# Altium schematic symbol library CommonElements.SchLib: 37 symbols
Pins are listed as number, name and electrical type; pins without a type are passive.

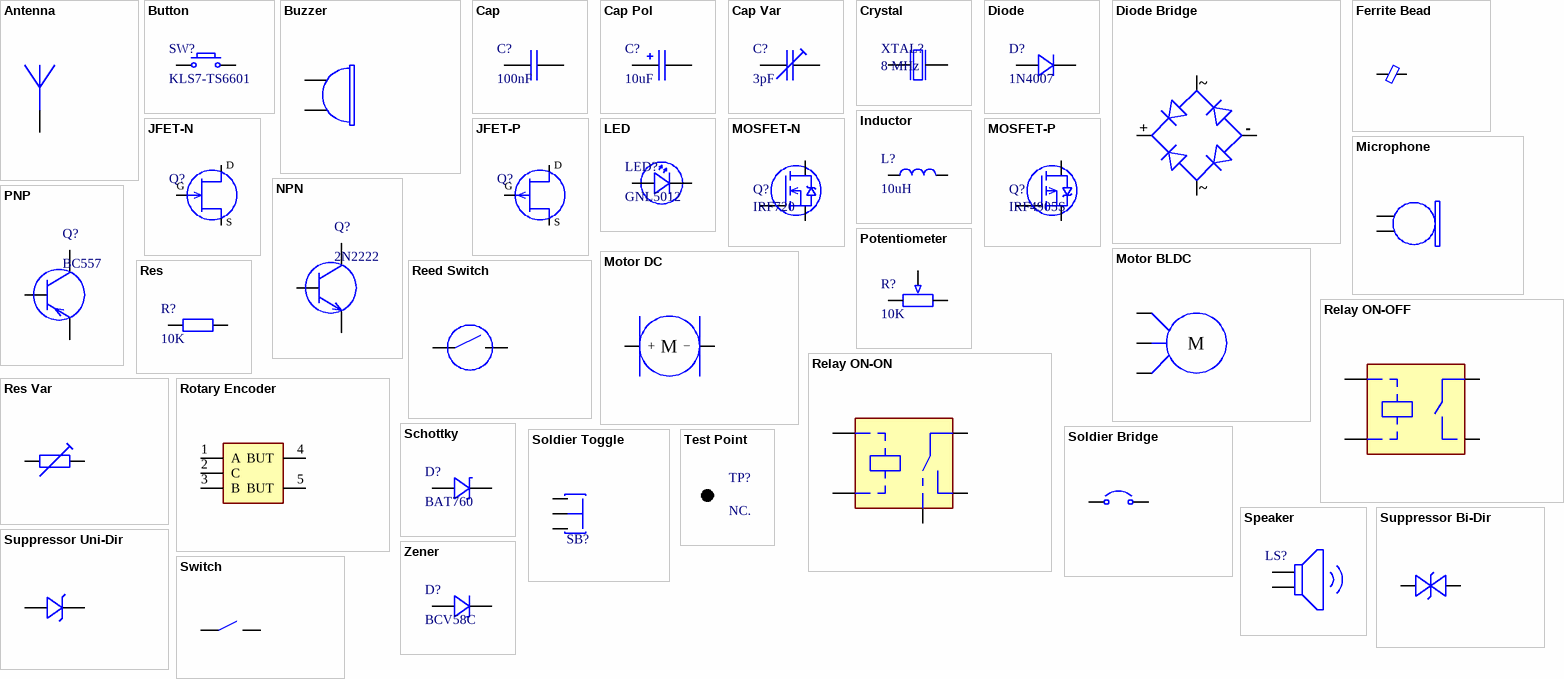
[diagram p0: symbols Antenna to Zener]

## Antenna
designator AE?, comment IPX1
Value: 2.4 GHz; Part Number: IPX1
footprint _1-PAD
pins: 1

## Button
designator SW?, comment KLS7-TS6601
Part Number: KLS7-TS6601
footprint _2-PAD
footprint _4-PAD; pin to pad 1>1+2 2>3+4
footprint BUT-PTH-6MM; pin to pad 1>1+2 2>3+4
footprint G71Y (SMT 3X6X3.5MM Tactile Button)
footprint BUT-SMD-6MM-H4.3MM; pin to pad 1>1+2 2>3+4
footprint BUT-SMD-6MM-H5MM; pin to pad 1>1+2 2>3+4
footprint BUT-SMD-6MM-H6MM; pin to pad 1>1+2 2>3+4
footprint BUT-SMD-6MM-H7MM; pin to pad 1>1+2 2>3+4
footprint BUT-SMD-6MM-H8MM; pin to pad 1>1+2 2>3+4
footprint BUT-SMD-8X6.2MM (FSM1LP); pin to pad 1>1+2 2>3+4
footprint KLS7-TS4407 (SMD 4.2mm x 4.5mm x 1.5mm Button); pin to pad 1>1+2 2>3+4
footprint KLS7-TS6335 (SMD Right Angle Button); pin to pad 1>1+2 2>3+4
footprint TL3301SPF260QG (SWITCH TACTILE SPST-NO 0.05A 12V); pin to pad 1>1+2 2>3+4
footprint BUT-PTH-12MM; pin to pad 1>1+2 2>3+4
footprint BUT-SMD-4X3.5X2MM
footprint 435171014816; pin to pad 1>1+2 2>3+4
pins: 1, 2

## Buzzer
designator LS?, comment KPI-G1410LP
Part Number: KPI-G1410LP
footprint BUZZER-S5.08MM-D10.5MM
footprint _2-PAD
footprint BUZZER-S7.62MM-D10.5MM
pins: 1, 2

## Cap
designator C?, comment 100nF
Voltage: 250V; Tolerance: 5%; Dielectric Type: X7R; Value: 100nF
footprint _2-PAD
footprint C0201
footprint C0402
footprint C0603
footprint C0805
footprint C1008
footprint C1206
footprint CAP_CER-5.08MM-CIR-V
footprint CAP_CER-5.08MM-CUBE-V
footprint CAP_FILM-P5MM-W5.5MM-L4MM
pins: 1, 2

## Cap Pol
designator C?, comment 10uF
Voltage: 25V; Tolerance: 5%; Dielectric Type: X7R; Value: 10uF
footprint _2-PAD
footprint CAP_ALSMD-9.4X8.3X10.7MM
footprint CAP_ALSMD-5X4.3X5.7MM
footprint CAP_ALSMD-5.9X5.4X5.7MM
footprint CAP_ALSMD-7.2X6.6X5.7MM
footprint CAP_POL-2.54MM-D5MM-H10MM-H-H
footprint CAP_POL-2.54MM-D5MM-H10MM-V
footprint CAP_POL-3.5MM-D8MM-H12.5MM-H-H
footprint CAP_POL-5.08MM-D10MM-H16MM-H-H
footprint CAP_POL-5.08MM-D10MM-H16MM-H-V
footprint CAP_POL-5.08MM-D8MM-H10MM-V
footprint CAP_POL-5.08MM-D8MM-H15MM-H-H
footprint CAP_POL-5MM-D12.5MM-H20MM-V
footprint CAP_TAN-A
footprint CAP_TAN-B
footprint CAP_TAN-C
footprint CAP_TAN-D
footprint CAP_ALSMD-11.2X10.3X10.7MM
pins: 1, 2

## Cap Var
designator С?, comment 3pF
Voltage: 250V; Tolerance: 5%; Dielectric Type: X7R; Value: 3pF
footprint _2-PAD
pins: 1, 2

## Crystal
designator XTAL?, comment 8 MHz
Part Number: HC49SM; Tolerance: 10ppm; Value: 8 MHz
footprint _2-PAD
footprint 7A (SMD Glass Sealing Crystals)
footprint HC-49
footprint HC-49SM
footprint NX3215SA
footprint NX5032GA (SMD Glass Sealing Crystals)
footprint SMD0503C2
footprint NX3225SA; pin to pad 2>3
footprint 7U (7U Series SMD Crystal Units)
footprint NX2520SA
pins: 1, 2

## Diode
designator D?, comment 1N4007
Part Number: 1N4007
footprint _2-PAD
footprint AXIAL10D-BL
footprint AXIAL10D-TR
footprint AXIAL12D-BL
footprint SMA (DO-214AC)
footprint SMB (DO-214AA)
footprint SMC (DO-214AB)
footprint SOD-123FL
footprint SOD-128
footprint SOD-323
footprint SOD-523 (SSMini2, SC-79)
footprint QFN1610
pins: 1 Anode, 2 Cathode

## Diode Bridge
designator BR?, comment DB107
Part Number: DB107
footprint _4-PAD
pins: 1, 2, 3, 4
text: ~; +; -

## Ferrite Bead
designator FB?, comment BLM18PG471SN1D
Value: 100uH; Part Number: BLM18PG471SN1D
footprint _2-PAD
footprint L0201
footprint L0402
footprint L0603
footprint L0805
footprint L1206
pins: 1, 2

## Inductor
designator L?, comment 10uH
Tolerance: 5%; Value: 10uH
footprint _2-PAD
footprint 0630 (06030 Power Inductor)
footprint 1040 (10040 Power Inductor)
footprint AXIAL10L
footprint CD105
footprint CD32
footprint CD43
footprint CD54
footprint CD75
footprint L0201
footprint L0402
footprint L0603
footprint L0805
footprint L1206
footprint THROTTLE-CT94-2
footprint VLS-CX-1
footprint IHLP1212
footprint IHLP2020
footprint VLS3012HBX
footprint 0420
footprint WE-HCI_5040_744316
footprint DO1608C
footprint SPM5020
footprint KSE-CD8D
pins: 1, 2

## JFET-N
designator Q?
footprint _3-PAD
footprint D2PAK-123
footprint D2PAK-132
footprint DPAK-123 (TO-252)
footprint DPAK-132 (TO-252)
footprint SOT-223
footprint SOT-23-3-123
footprint SOT-23-3-312
footprint SOT-323 (SC-70)
footprint SOT-416FL (SC-89 (EMT3))
footprint TO-220-H
footprint TO-220-V
footprint TO-92-123-L
footprint TO-92-123-T
footprint TO-92-132-L
footprint TO-92-132-T
footprint TO-92-321-L
footprint TO-92-321-T
pins: 1 G, 2 D, 3 S

## JFET-P
designator Q?
footprint _3-PAD
footprint D2PAK-123
footprint D2PAK-132
footprint DPAK-123 (TO-252)
footprint DPAK-132 (TO-252)
footprint SOT-223
footprint SOT-23-3-123
footprint SOT-23-3-312
footprint SOT-323 (SC-70)
footprint SOT-416FL (SC-89 (EMT3))
footprint TO-220-H
footprint TO-220-V
footprint TO-92-123-L
footprint TO-92-123-T
footprint TO-92-132-L
footprint TO-92-132-T
footprint TO-92-321-L
footprint TO-92-321-T
pins: 1 G, 2 D, 3 S

## LED
designator LED?, comment GNL5012
Part Number: GNL5012
footprint _2-PAD
footprint LED0603
footprint LED-BLUE-2.54MM-D3MM
footprint LED-BLUE-2.54MM-D3MM-H15MM
footprint LED-BLUE-2.54MM-D5MM
footprint LED-BLUE-2.54MM-D5MM-H17MM
footprint LED-GREEN-2.54MM-D3MM
footprint LED-GREEN-2.54MM-D3MM-H15MM
footprint LED-GREEN-2.54MM-D5MM
footprint LED-GREEN-2.54MM-D5MM-H17MM
footprint LED-PURPLE-2.54MM-D3MM
footprint LED-PURPLE-2.54MM-D3MM-H15MM
footprint LED-PURPLE-2.54MM-D5MM
footprint LED-PURPLE-2.54MM-D5MM-H17MM
footprint LED-RED-2.54MM-D3MM
footprint LED-RED-2.54MM-D3MM-H15MM
footprint LED-RED-2.54MM-D5MM
footprint LED-RED-2.54MM-D5MM-H17MM
footprint LED-WHITE-2.54MM-D3MM
footprint LED-WHITE-2.54MM-D3MM-H15MM
footprint LED-WHITE-2.54MM-D5MM
footprint LED-WHITE-2.54MM-D5MM-H17MM
footprint LED-YELLOW-2.54MM-D3MM
footprint LED-YELLOW-2.54MM-D3MM-H15MM
footprint LED-YELLOW-2.54MM-D5MM
footprint LED-YELLOW-2.54MM-D5MM-H17MM
footprint LED-2106-R/A
footprint 3528
footprint LED0402
pins: 1 Anode, 2 Cathode

## Microphone
designator MK?, comment HMO0603B
Part Number: HMO0603B
footprint _2-PAD
footprint MIC_ELECTRET-P2.54MM-D9.7MM-H6.5MM-V
footprint MIC_ELECTRET-S2.54MM-D9.7MM-H6.5MM-H
footprint MIC_ELECTRET-SMT-D9.7MM-H6.5MM
pins: 1 +, 2 −

## MOSFET-N
designator Q?, comment IRF720
Part Number: IRF720
footprint _3-PAD
footprint D2PAK-123
footprint D2PAK-132
footprint DPAK-123 (TO-252)
footprint DPAK-132 (TO-252)
footprint SOT-223
footprint SOT-23-3-123
footprint SOT-23-3-312
footprint SOT-323 (SC-70)
footprint SOT-416FL (SC-89 (EMT3))
footprint TO-220-H
footprint TO-220-V
footprint TO-92-123-L
footprint TO-92-123-T
footprint TO-92-132-L
footprint TO-92-132-T
footprint TO-92-321-L
footprint TO-92-321-T
footprint LFPAK33 (SOT1210)
footprint TPH1500CNH1
footprint POWERFLAT_3.3X3.3MM
pins: 1 G, 2 S, 3 D

## MOSFET-P
designator Q?, comment IRF4905S
Part Number: IRF4905S
footprint _3-PAD
footprint D2PAK-123
footprint D2PAK-132
footprint DPAK-123 (TO-252)
footprint DPAK-132 (TO-252)
footprint SOT-223
footprint SOT-23-3-123
footprint SOT-23-3-312
footprint SOT-323 (SC-70)
footprint SOT-416FL (SC-89 (EMT3))
footprint TO-220-H
footprint TO-220-V
footprint TO-92-123-L
footprint TO-92-123-T
footprint TO-92-132-L
footprint TO-92-132-T
footprint TO-92-321-L
footprint TO-92-321-T
footprint POWERFLAT_3.3X3.3MM
pins: 1 G, 2 S, 3 D

## Motor BLDC
designator M?, comment GM2804
Voltage: 12V; Part Number: GM2804
footprint _3-PAD
pins: 1, 2, 3
text: M

## Motor DC
designator M?
Voltage: 12V
footprint _2-PAD
pins: 1 +, 1 −
text: M

## NPN
designator Q?, comment 2N2222
Part Number: 2N2222
footprint _3-PAD
footprint D2PAK-123
footprint D2PAK-132
footprint DPAK-123 (TO-252)
footprint DPAK-132 (TO-252)
footprint SOT-223
footprint SOT-23-3-123
footprint SOT-23-3-312
footprint SOT-323 (SC-70)
footprint SOT-416FL (SC-89 (EMT3))
footprint TO-220-H
footprint TO-220-V
footprint TO-92-123-L
footprint TO-92-123-T
footprint TO-92-132-L
footprint TO-92-132-T
footprint TO-92-321-L
footprint TO-92-321-T
pins: 1 C, 2 B, 3 E

## PNP
designator Q?, comment BC557
Part Number: BC557
footprint _3-PAD
footprint D2PAK-123
footprint D2PAK-132
footprint DPAK-123 (TO-252)
footprint DPAK-132 (TO-252)
footprint SOT-223
footprint SOT-23-3-123
footprint SOT-23-3-312
footprint SOT-323 (SC-70)
footprint SOT-416FL (SC-89 (EMT3))
footprint TO-220-H
footprint TO-220-V
footprint TO-92-123-L
footprint TO-92-123-T
footprint TO-92-132-L
footprint TO-92-132-T
footprint TO-92-321-L
footprint TO-92-321-T
pins: 1 C, 2 B, 3 E

## Potentiometer
designator R?, comment 10K
Part Number: P0915N-FC15BR10K; Tolerance: 5%; Value: 10K
footprint _3-PAD
footprint 3006
footprint 3296W-H
footprint 3296W-V
footprint 3296X-H
footprint 3296X-V
footprint EVM3
footprint P0915N-FX15 (Model P09x Series Potentiometer)
footprint P0915N-FX20 (Model P09x Series Potentiometer)
footprint P0915N-FX25 (Model P09x Series Potentiometer)
footprint R0904N-X-L20KQ (R0904N Family Potentiometer)
footprint R1212N
footprint RS5-5-5
footprint SL-20V1-35MM
footprint SL-20V-30-35MM
footprint 3314
pins: 1, 2, 3

## Reed Switch
designator K?, comment MK16-B-2
Part Number: MK16-B-2
footprint _2-PAD
pins: 1, 2

## Relay ON-OFF
designator K?, comment SRD-12VDC-SLA
Part Number: SRD-12VDC-SLA
footprint SRD-XXVDC-SLA
footprint SRD-XXVDC-SLB
pins: 1, 2, 3, 4

## Relay ON-ON
designator K?, comment NRP05-A-12D
Part Number: NRP05-A-12D
footprint NRP05-C
footprint SRD-XXVDC-SLC
pins: 1, 2, 3, 4, 5

## Res
designator R?, comment 10K
Power: 0.125W; Tolerance: 5%; Value: 10K
footprint AXIAL10R
footprint AXIAL12R
footprint R0201
footprint R0402
footprint R0603
footprint R0805
footprint R1008
footprint R1206
footprint R2512
footprint _2-PAD
pins: 1, 2

## Res Var
designator R?, comment 10K
Tolerance: 5%; Value: 10K
footprint _2-PAD
pins: 1, 3

## Rotary Encoder
designator U?, comment EC-11
Part Number: EC-11
footprint EC11
footprint EC11S
footprint _5-PAD
pins: 1 A, 2 C, 3 B, 4 BUT, 5 BUT

## Schottky
designator D?, comment BAT760
Part Number: BAT760
footprint _2-PAD
footprint AXIAL10D-BL
footprint AXIAL10D-TR
footprint AXIAL12D-BL
footprint MELF-LL34
footprint SMA (DO-214AC)
footprint SMB (DO-214AA)
footprint SMC (DO-214AB)
footprint SOD-123FL
footprint SOD-128
footprint SOD-323
footprint SOD-523 (SSMini2, SC-79)
footprint QFN1610
pins: 1 Anode, 2 Cathode

## Soldier Bridge
designator SB?, comment Open
footprint 2X1F-H15MM (DS1021)
footprint 2X1F-H8.5MM (DS1021)
footprint 2X1FR-H6MM-L6MM (DS1022)
footprint 2X1FR-S2MM-H4.5MM-L6MM (DS1025-19)
footprint 2X1F-S2MM-H12.2MM (DS1025-01)
footprint 2X1F-S2MM-H8MM (DS1025-01)
footprint SOLDBR
footprint _2-PAD
pins: 1, 2

## Soldier Toggle
designator SB?, comment Open
footprint 3X1F-H15MM (DS1021)
footprint 3X1F-H8.5MM (DS1021)
footprint 3X1FR-H6MM-L6MM (DS1022)
footprint 3X1FR-S2MM-H4.5MM-L6MM (DS1025-19)
footprint 3X1F-S2MM-H12.2MM (DS1025-01)
footprint 3X1F-S2MM-H8MM (DS1025-01)
footprint SOLDBR-3
footprint _3-PAD
pins: 1, 2, 3

## Speaker
designator LS?, comment 40KS08P  (value not drawn)
Part Number: 40KS08P
footprint _2-PAD
footprint 1540
pins: 1 19, 2 20

## Suppressor Bi-Dir
designator D?, comment ESD5B5.0ST
Part Number: ESD5B5.0ST
footprint _2-PAD
footprint AXIAL10D-BL
footprint AXIAL10D-TR
footprint AXIAL12D-BL
footprint MELF-LL34
footprint SMA (DO-214AC)
footprint SMB (DO-214AA)
footprint SMC (DO-214AB)
footprint SOD-123FL
footprint SOD-128
footprint SOD-323
footprint SOD-523 (SSMini2, SC-79)
footprint QFN1610
pins: 1, 2

## Suppressor Uni-Dir
designator D?, comment ESD3V3D5
Part Number: ESD3V3D5
footprint _2-PAD
footprint AXIAL10D-BL
footprint AXIAL10D-TR
footprint AXIAL12D-BL
footprint MELF-LL34
footprint SMA (DO-214AC)
footprint SMB (DO-214AA)
footprint SMC (DO-214AB)
footprint SOD-123FL
footprint SOD-128
footprint SOD-323
footprint SOD-523 (SSMini2, SC-79)
footprint QFN1610
pins: 1, 2

## Switch
designator SW?, comment KN3(C)-101P
Part Number: KN3(C)-101P
footprint _2-PAD
footprint DIP_SW-1P-S
footprint DIP_SW-1P-T
footprint MHPS2273 (MHPS Series Key Switches)
footprint MTS-1XX-A2 (Miniature Toggle Switch)
pins: 1, 2

## Test Point
designator TP?, comment NC.
footprint _1-PAD
footprint 1X1F-H15MM (DS1021)
footprint 1X1F-H8.5MM (DS1021)
footprint 1X1FR-H6MM-L6MM (DS1022)
footprint 1X1FR-S2MM-H4.5MM-L6MM (DS1025-19)
footprint 1X1F-S2MM-H12.2MM (DS1025-01)
footprint 1X1F-S2MM-H8MM (DS1025-01)
footprint 1X1M-H5MM (DS1023)
footprint 1X1M-H8.5MM (DS1023)
footprint 1X1MR-H5.8MM-L10.2MM (DS1024)
footprint 1X1MR-S2MM-H2.8MM-L4.3MM (DS1026-02)
footprint 1X1M-S2MM-H4.3MM (DS1026-01)
footprint TEST_HOOK_BLACK
footprint TEST_HOOK_BLUE
footprint TEST_HOOK_GREEN
footprint TEST_HOOK_ORANGE
footprint TEST_HOOK_RED
footprint TEST_HOOK_WHITE
footprint TEST_HOOK_YELLOW
footprint TEST_POINT-D1.5MM
footprint TEST_POINT-D1MM
footprint TEST_POINT-D2MM
pins: 1

## Zener
designator D?, comment BCV58C
Part Number: BCV58C
footprint _2-PAD
footprint AXIAL10D-BL
footprint AXIAL10D-TR
footprint AXIAL12D-BL
footprint MELF-LL34
footprint MINI_MELF (DO-213AA, SOD-80)
footprint SMA (DO-214AC)
footprint SMB (DO-214AA)
footprint SMC (DO-214AB)
footprint SOD-123FL
footprint SOD-128
footprint SOD-323
footprint SOD-523 (SSMini2, SC-79)
footprint QFN1610
pins: 1, 2